# Altium schematic symbol library MyElements.SchLib: 5 symbols
Pins are listed as number, name and electrical type; pins without a type are passive.

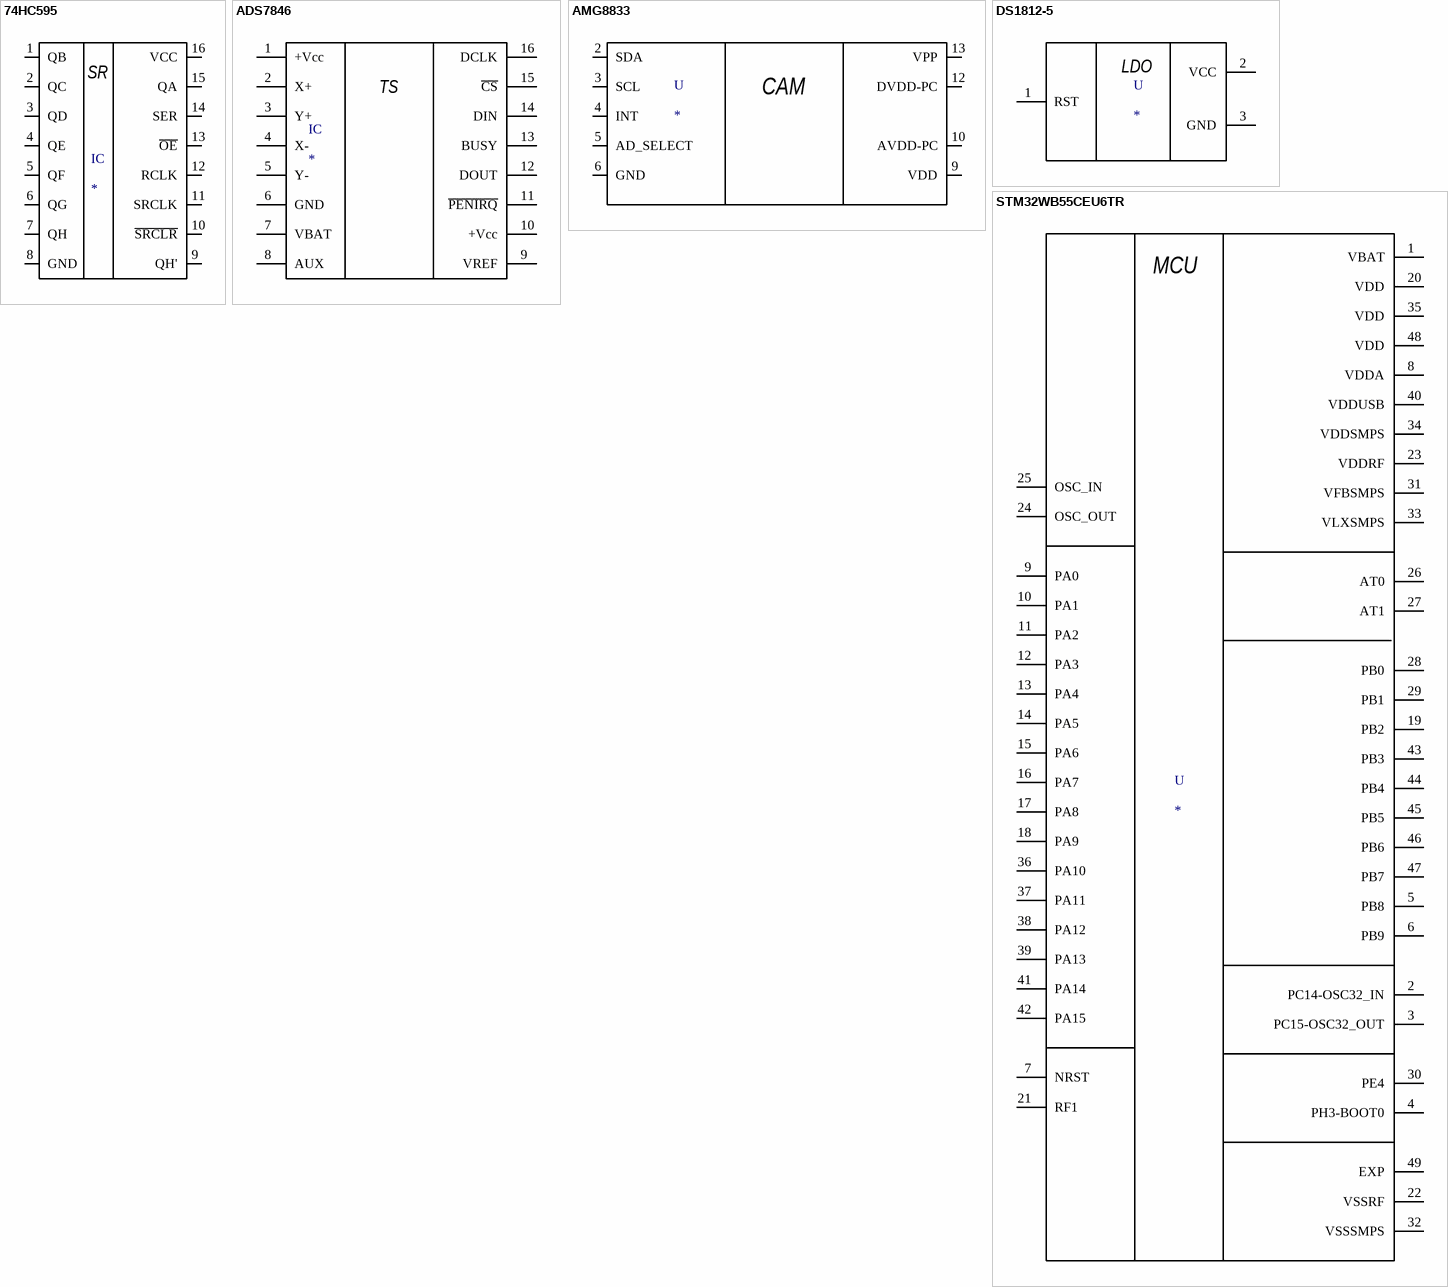
[diagram p0: symbols 74HC595 to STM32WB55CEU6TR]

## 74HC595
designator IC
Shift Shift Register 1 Elemento 8 Bit 16-TSSOP; MP: 74HC595; MF: Nexperia USA; Value: *; SnapEDA_Link: https://www.snapeda.com/parts/74HC595/Nexperia%20USA%20Inc./view-part/2886108/?ref=snap; Availability: Unavailable; Package: TSSOP-16 ON Semiconductor; Price: None
footprint SO16 (Footprint not found)
pins: 1 QB, 2 QC, 3 QD, 4 QE, 5 QF, 6 QG, 7 QH, 8 GND (power), 9 QH', 10 ~{SRCLR}, 11 SRCLK (oc), 12 RCLK, 13 ~{OE}, 14 SER, 15 QA, 16 VCC (power)
text: SR

## ADS7846
designator IC
Touchscreen Controller, 4 Wire Resistive 12 b SPI Interface 16-TSSOP; MP: ADS7846; MF: Texas Instruments; Value: *; SnapEDA_Link: https://www.snapeda.com/parts/ADS7846/Texas%20Instruments/view-part/2174/?ref=snap; Price: None; Package: TSSOP-16 Texas Instruments; Availability: Unavailable
footprint TSSOP16
pins: 1 +Vcc (power), 2 X+, 3 Y+, 4 X-, 5 Y-, 6 GND (power), 7 VBAT, 8 AUX, 9 VREF, 10 +Vcc, 11 ~{PENIRQ}, 12 DOUT, 13 BUSY, 14 DIN, 15 ~{CS}, 16 DCLK
text: TS

## AMG8833
designator U
Temperature Sensor Digital, Infrared _IR_ 14-SMD Module; MF: Panasonic Electronic; MP: AMG8833; Value: *; Package: SMD-14 Panasonic; Price: None; Availability: Unavailable; SnapEDA_Link: https://www.snapeda.com/parts/AMG8833/Panasonic%20Electronic%20Components/view-part/446696/?ref=snap
footprint DFN-8_DD
pins: 2 SDA, 3 SCL, 4 INT, 5 AD_SELECT, 6 GND (power), 9 VDD (power), 10 AVDD-PC (power), 12 DVDD-PC (power), 13 VPP (power)
text: CAM

## DS1812-5
designator U
Supervisor Push-Pull, Totem Pole 1 Channel TO-92-3; MF: Maxim Integrated; MP: DS1812-5+; Value: *; Package: TO92-3 Maxim; Price: None; Availability: Unavailable; SnapEDA_Link: https://www.snapeda.com/parts/DS1812-5%2B/Maxim%20Integrated/view-part/1159029/?ref=snap
footprint TO92127P495H695-3
pins: 1 RST, 2 VCC (power), 3 GND (power)
text: LDO

## STM32WB55CEU6TR
designator U
IC RF TxRx + MCU 802.15.4, Bluetooth Bluetooth v5.0, Thread, ZigbeeÂ® 2.402GHz ~ 2.48GHz 48-UFQFN Exposed Pad; MF: STMicroelectronics; MP: STM32WB55CEU6TR; Package: UFQFN-48 STMicroelectronics; Value: *; Availability: Unavailable; SnapEDA_Link: https://www.snapeda.com/parts/STM32WB55CEU6TR/STMicroelectronics/view-part/4220641/?ref=snap; Price: None
footprint QFN50P700X700X60-49N
pins: 1 VBAT (power), 2 PC14-OSC32_IN, 3 PC15-OSC32_OUT, 4 PH3-BOOT0, 5 PB8, 6 PB9, 7 NRST, 8 VDDA (power), 9 PA0, 10 PA1, 11 PA2, 12 PA3, 13 PA4, 14 PA5, 15 PA6, 16 PA7, 17 PA8, 18 PA9, 19 PB2, 20 VDD (power), 21 RF1, 22 VSSRF, 23 VDDRF (power), 24 OSC_OUT, 25 OSC_IN, 26 AT0, 27 AT1, 28 PB0, 29 PB1, 30 PE4, 31 VFBSMPS (power), 32 VSSSMPS (power), 33 VLXSMPS (power), 34 VDDSMPS (power), 35 VDD (power), 36 PA10, 37 PA11, 38 PA12, 39 PA13, 40 VDDUSB (power), 41 PA14, 42 PA15, 43 PB3, 44 PB4, 45 PB5, 46 PB6, 47 PB7, 48 VDD (power), 49 EXP
text: MCU